# Altium footprint library 接插件.PcbLib: 193 footprints (part 13 of 13)
Each footprint in its own frame and in the unit in brackets; x right, y up, seen from the top. Pads: shape width x height; smd on the part's side, far side on the other; paste and mask are expansions set on the pad; w line width, h text height; cw(c..) or ccw(c..) is an arc to the next point about the centre after c.
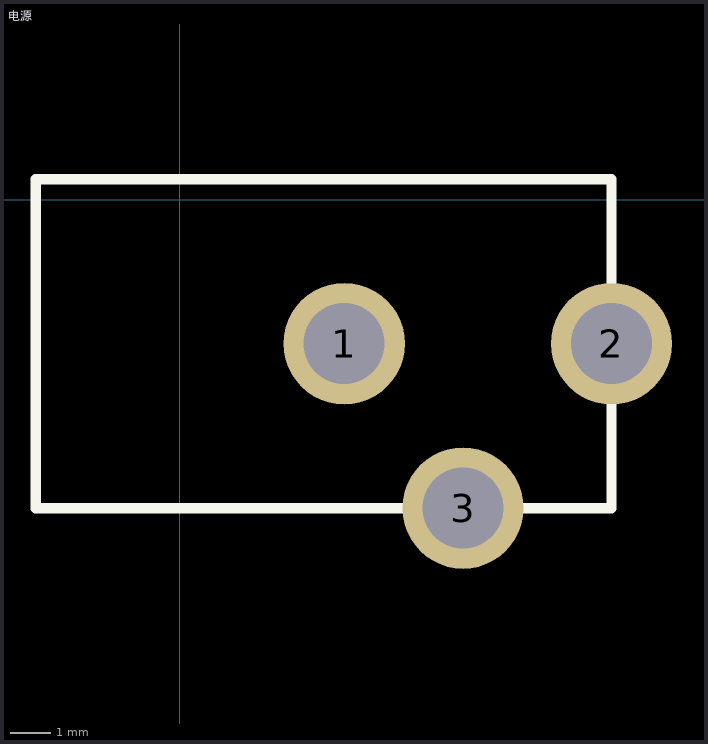
[diagram p12: the footprint, top view; thin cyan lines are the x and y axes]

## 电源 [mm]
pads (3):
  round 3 hole 2: 1(4.064,-3.556) 2(10.668,-3.556) 3(7,-7.62)
Top Overlay:
  lines w0.254: -3.556,-7.62 10.668,-7.62 10.668,0.508 -3.556,0.508 -3.556,-7.62